# Altium schematic symbol library Schlib1.SchLib: 2 symbols
Pins are listed as number, name and electrical type; pins without a type are passive.

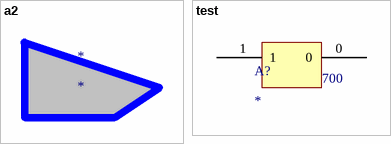
[diagram p0: symbols a2 to test]

## a2
designator *

## test
designator A?
footprint PCBComponent_1
pins: 0, 1
text: 700